# Altium footprint library PcbLib1.PcbLib: 4 footprints
Each footprint in its own frame and in the unit in brackets; x right, y up, seen from the top. Pads: shape width x height; smd on the part's side, far side on the other; paste and mask are expansions set on the pad; w line width, h text height; cw(c..) or ccw(c..) is an arc to the next point about the centre after c.
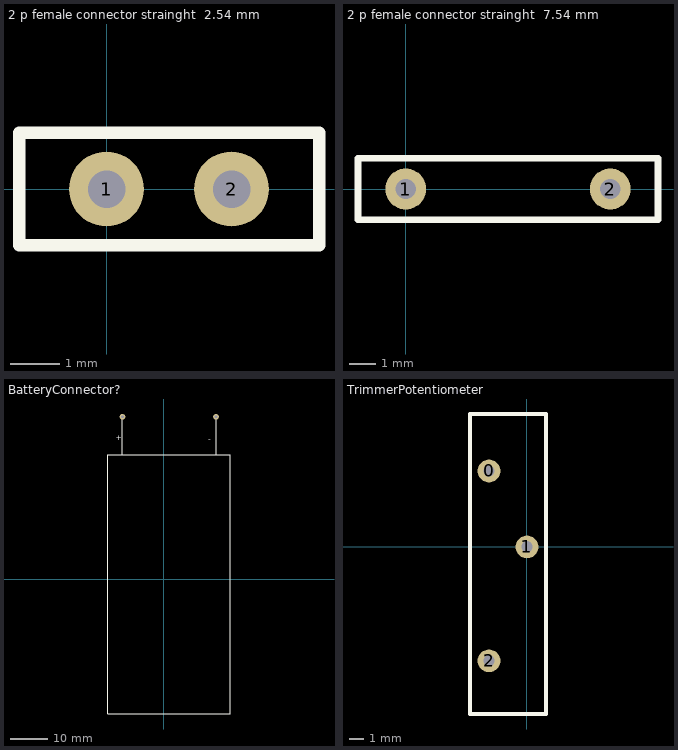
[diagram p0: the footprints below, top view; thin cyan lines are the x and y axes]

## 2 p female connector strainght  2.54 mm [mil]
pads (2):
  round 60 hole 30: 1(0,0) 2(100,0)
Top Overlay:
  lines w10: -70,-45 170,-45 170,45 -70,45 -70,-45

## 2 p female connector strainght  7.54 mm [mil]
pads (2):
  round 60 hole 30: 1(0,0) 2(300,0)
Top Overlay:
  lines w10: -70,-45 370,-45 370,45 -70,45 -70,-45

## BatteryConnector? [mil]
pads (2):
  round 60 hole 30: +(-440,1730) -(555,1730)
Top Overlay:
  lines w10: -440,1330 -440,1730 ; 555,1330 555,1730 ; -595,-1431 705,-1431 705,1325 -595,1325 -595,-1431
  text "+" at -510,1480 h60
  text "-" at 475,1465.01 h60

## TrimmerPotentiometer [mil]
pads (3):
  round 60 hole 30: 0(-100,200) 1(0,0) 2(-100,-300)
Top Overlay:
  lines w10: -150,-440 50,-440 50,350 -150,350 -150,-440